# EAGLE library part PI (library Ciseco Board Outlines)
Ciseco Rasbperry Pi add on board outlines
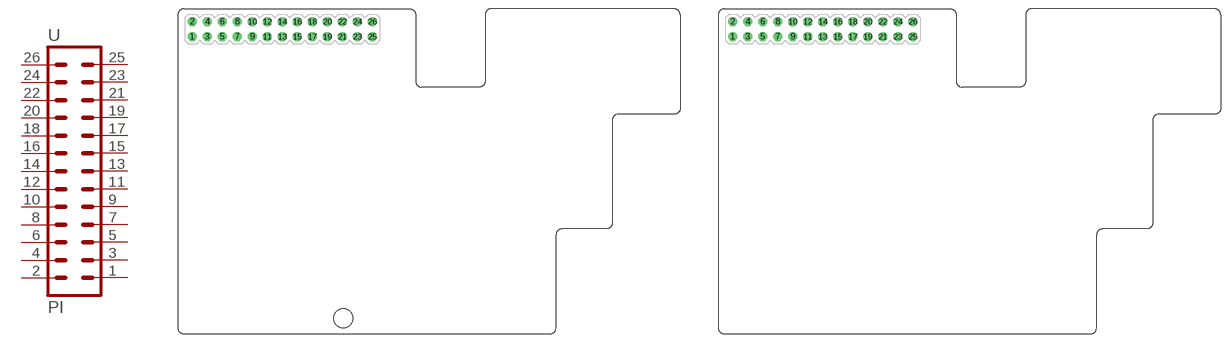
[diagram p0: symbol with the pads of PI-BOARD; footprints PI-BOARD, PI-BOARD-NOHOLE]

Designator prefix U

## PI  [PI-BOARD]
1  1  pas
2  2  pas
3  3  pas
4  4  pas
5  5  pas
6  6  pas
7  7  pas
8  8  pas
9  9  pas
10  10  pas
11  11  pas
12  12  pas
13  13  pas
14  14  pas
15  15  pas
16  16  pas
17  17  pas
18  18  pas
19  19  pas
20  20  pas
21  21  pas
22  22  pas
23  23  pas
24  24  pas
25  25  pas
26  26  pas

## PI-NOHOEL  [PI-BOARD-NOHOLE]
Pads as for PI-BOARD

## PI-REFRENCE  [PI-BOARD_REF]
Pads as for PI-BOARD

## PILARGER  [PI-HEADER-LARGEHOLES]
Pads as for PI-BOARD

## PI-REFRENCE-LOCK  [PI-BOARD-REF-LOCK]
Pads as for PI-BOARD

## PI-REFRENCE-LOCK-PASTE  [PI-BOARD-REF-LOCK-PASTE]
Pads as for PI-BOARD

## PI-HEADER  [PI-HEADER]
Pads as for PI-BOARD

## PI-HEADER-PIN-NUMBERS  [PI-HEADER-PIN]
Pads as for PI-BOARD

## PI-HEADER-PIN-NUMBERS-JAMLOCK  [PI-HEADER-PIN-JAMLOCK]
Pads as for PI-BOARD

## PI-HLE-CONNECTOR-ONLY  [HLE-113-02-F-DV-BE]
Pads as for PI-BOARD

## PI-HLE-BOTTOM  [HLE-113-02-F-DV-BE-BOTTOM]
Pads as for PI-BOARD

## Footprint PI-BOARD (pad centres in mm)
drill 1.016 octagon: 1 2.44,50.31; 2 2.44,52.85; 3 4.98,50.31; 4 4.98,52.85; 5 7.52,50.31; 6 7.52,52.85; 7 10.06,50.31; 8 10.06,52.85; 9 12.6,50.31; 10 12.6,52.85; 11 15.14,50.31; 12 15.14,52.85; 13 17.68,50.31; 14 17.68,52.85; 15 20.22,50.31; 16 20.22,52.85; 17 22.76,50.31; 18 22.76,52.85; 19 25.3,50.31; 20 25.3,52.85; 21 27.84,50.31; 22 27.84,52.85; 23 30.38,50.31; 24 30.38,52.85; 25 32.92,50.31; 26 32.92,52.85
hole 3.2 at 28.019,2.638

## Footprint PI-BOARD-NOHOLE (pad centres in mm)
drill 1.016 octagon: 1 2.44,50.31; 2 2.44,52.85; 3 4.98,50.31; 4 4.98,52.85; 5 7.52,50.31; 6 7.52,52.85; 7 10.06,50.31; 8 10.06,52.85; 9 12.6,50.31; 10 12.6,52.85; 11 15.14,50.31; 12 15.14,52.85; 13 17.68,50.31; 14 17.68,52.85; 15 20.22,50.31; 16 20.22,52.85; 17 22.76,50.31; 18 22.76,52.85; 19 25.3,50.31; 20 25.3,52.85; 21 27.84,50.31; 22 27.84,52.85; 23 30.38,50.31; 24 30.38,52.85; 25 32.92,50.31; 26 32.92,52.85

## Footprint PI-BOARD_REF (pad centres in mm)
drill 1.016 octagon: 1 2.44,50.31; 2 2.44,52.85; 3 4.98,50.31; 4 4.98,52.85; 5 7.52,50.31; 6 7.52,52.85; 7 10.06,50.31; 8 10.06,52.85; 9 12.6,50.31; 10 12.6,52.85; 11 15.14,50.31; 12 15.14,52.85; 13 17.68,50.31; 14 17.68,52.85; 15 20.22,50.31; 16 20.22,52.85; 17 22.76,50.31; 18 22.76,52.85; 19 25.3,50.31; 20 25.3,52.85; 21 27.84,50.31; 22 27.84,52.85; 23 30.38,50.31; 24 30.38,52.85; 25 32.92,50.31; 26 32.92,52.85

## Footprint PI-HEADER-LARGEHOLES (pad centres in mm)
drill 1.5 octagon: 1 2.44,2.05; 2 2.44,4.59; 3 4.98,2.05; 4 4.98,4.59; 5 7.52,2.05; 6 7.52,4.59; 7 10.06,2.05; 8 10.06,4.59; 9 12.6,2.05; 10 12.6,4.59; 11 15.14,2.05; 12 15.14,4.59; 13 17.68,2.05; 14 17.68,4.59; 15 20.22,2.05; 16 20.22,4.59; 17 22.76,2.05; 18 22.76,4.59; 19 25.3,2.05; 20 25.3,4.59; 21 27.84,2.05; 22 27.84,4.59; 23 30.38,2.05; 24 30.38,4.59; 25 32.92,2.05; 26 32.92,4.59

## Footprint PI-BOARD-REF-LOCK (pad centres in mm)
drill 1.016 octagon: 1 2.44,50.11; 2 2.44,53.05; 3 4.98,50.11; 4 4.98,53.05; 5 7.52,50.11; 6 7.52,53.05; 7 10.06,50.11; 8 10.06,53.05; 9 12.6,50.11; 10 12.6,53.05; 11 15.14,50.11; 12 15.14,53.05; 13 17.68,50.11; 14 17.68,53.05; 15 20.22,50.11; 16 20.22,53.05; 17 22.76,50.11; 18 22.76,53.05; 19 25.3,50.11; 20 25.3,53.05; 21 27.84,50.11; 22 27.84,53.05; 23 30.38,50.11; 24 30.38,53.05; 25 32.92,50.11; 26 32.92,53.05

## Footprint PI-BOARD-REF-LOCK-PASTE (pad centres in mm)
drill 1.016 octagon: 1 2.44,50.11; 2 2.44,53.05; 3 4.98,50.11; 4 4.98,53.05; 5 7.52,50.11; 6 7.52,53.05; 7 10.06,50.11; 8 10.06,53.05; 9 12.6,50.11; 10 12.6,53.05; 11 15.14,50.11; 12 15.14,53.05; 13 17.68,50.11; 14 17.68,53.05; 15 20.22,50.11; 16 20.22,53.05; 17 22.76,50.11; 18 22.76,53.05; 19 25.3,50.11; 20 25.3,53.05; 21 27.84,50.11; 22 27.84,53.05; 23 30.38,50.11; 24 30.38,53.05; 25 32.92,50.11; 26 32.92,53.05

## Footprint PI-HEADER (pad centres in mm)
drill 1.016 octagon: 1 2.44,50.31; 2 2.44,52.85; 3 4.98,50.31; 4 4.98,52.85; 5 7.52,50.31; 6 7.52,52.85; 7 10.06,50.31; 8 10.06,52.85; 9 12.6,50.31; 10 12.6,52.85; 11 15.14,50.31; 12 15.14,52.85; 13 17.68,50.31; 14 17.68,52.85; 15 20.22,50.31; 16 20.22,52.85; 17 22.76,50.31; 18 22.76,52.85; 19 25.3,50.31; 20 25.3,52.85; 21 27.84,50.31; 22 27.84,52.85; 23 30.38,50.31; 24 30.38,52.85; 25 32.92,50.31; 26 32.92,52.85

## Footprint PI-HEADER-PIN (pad centres in mm)
drill 1.016 octagon: 1 2.44,50.31; 2 2.44,52.85; 3 4.98,50.31; 4 4.98,52.85; 5 7.52,50.31; 6 7.52,52.85; 7 10.06,50.31; 8 10.06,52.85; 9 12.6,50.31; 10 12.6,52.85; 11 15.14,50.31; 12 15.14,52.85; 13 17.68,50.31; 14 17.68,52.85; 15 20.22,50.31; 16 20.22,52.85; 17 22.76,50.31; 18 22.76,52.85; 19 25.3,50.31; 20 25.3,52.85; 21 27.84,50.31; 22 27.84,52.85; 23 30.38,50.31; 24 30.38,52.85; 25 32.92,50.31; 26 32.92,52.85

## Footprint PI-HEADER-PIN-JAMLOCK (pad centres in mm)
drill 1.016 octagon: 1 2.44,50.16; 2 2.44,53; 3 4.98,50.16; 4 4.98,53; 5 7.52,50.16; 6 7.52,53; 7 10.06,50.16; 8 10.06,53; 9 12.6,50.16; 10 12.6,53; 11 15.14,50.16; 12 15.14,53; 13 17.68,50.16; 14 17.68,53; 15 20.22,50.16; 16 20.22,53; 17 22.76,50.16; 18 22.76,53; 19 25.3,50.16; 20 25.3,53; 21 27.84,50.16; 22 27.84,53; 23 30.38,50.16; 24 30.38,53; 25 32.92,50.16; 26 32.92,53

## Footprint HLE-113-02-F-DV-BE (pad centres in mm)
smd 0.8 x 1.4: 1 -15.24,-2.65; 2 -15.24,2.65; 3 -12.7,-2.65; 4 -12.7,2.65; 5 -10.16,-2.65; 6 -10.16,2.65; 7 -7.62,-2.65; 8 -7.62,2.65; 9 -5.08,-2.65; 10 -5.08,2.65; 11 -2.54,-2.65; 12 -2.54,2.654; 13 0,-2.65; 14 0,2.65; 15 2.54,-2.65; 16 2.54,2.65; 17 5.08,-2.65; 18 5.08,2.65; 19 7.62,-2.65; 20 7.62,2.65; 21 10.16,-2.65; 22 10.16,2.65; 23 12.7,-2.65; 24 12.7,2.65; 25 15.24,-2.65; 26 15.24,2.65
hole 0.97 at -2.54,1.27
hole 0.97 at -2.54,-1.27
hole 0.97 at 0,1.27
hole 0.97 at 0,-1.27
hole 0.97 at 2.54,1.27
hole 0.97 at 2.54,-1.27
hole 0.97 at 5.08,1.27
hole 0.97 at 5.08,-1.27
hole 0.97 at 7.62,1.27
hole 0.97 at 7.62,-1.27
hole 0.97 at 10.16,1.27
hole 0.97 at 10.16,-1.27
hole 0.97 at 12.7,1.27
hole 0.97 at 12.7,-1.27
hole 0.97 at 15.24,1.27
hole 0.97 at 15.24,-1.27
hole 0.97 at -5.08,1.27
hole 0.97 at -5.08,-1.27
hole 0.97 at -7.62,1.27
hole 0.97 at -7.62,-1.27
hole 0.97 at -10.16,1.27
hole 0.97 at -10.16,-1.27
hole 0.97 at -12.7,1.27
hole 0.97 at -12.7,-1.27
hole 0.97 at -15.24,1.27
hole 0.97 at -15.24,-1.27

## Footprint HLE-113-02-F-DV-BE-BOTTOM (pad centres in mm)
smd 0.8 x 1.4 bottom: 1 -15.24,-2.65; 2 -15.24,2.65; 3 -12.7,-2.65; 4 -12.7,2.65; 5 -10.16,-2.65; 6 -10.16,2.65; 7 -7.62,-2.65; 8 -7.62,2.65; 9 -5.08,-2.65; 10 -5.08,2.65; 11 -2.54,-2.65; 12 -2.54,2.654; 13 0,-2.65; 14 0,2.65; 15 2.54,-2.65; 16 2.54,2.65; 17 5.08,-2.65; 18 5.08,2.65; 19 7.62,-2.65; 20 7.62,2.65; 21 10.16,-2.65; 22 10.16,2.65; 23 12.7,-2.65; 24 12.7,2.65; 25 15.24,-2.65; 26 15.24,2.65
hole 0.97 at -2.54,1.27
hole 0.97 at -2.54,-1.27
hole 0.97 at 0,1.27
hole 0.97 at 0,-1.27
hole 0.97 at 2.54,1.27
hole 0.97 at 2.54,-1.27
hole 0.97 at 5.08,1.27
hole 0.97 at 5.08,-1.27
hole 0.97 at 7.62,1.27
hole 0.97 at 7.62,-1.27
hole 0.97 at 10.16,1.27
hole 0.97 at 10.16,-1.27
hole 0.97 at 12.7,1.27
hole 0.97 at 12.7,-1.27
hole 0.97 at 15.24,1.27
hole 0.97 at 15.24,-1.27
hole 0.97 at -5.08,1.27
hole 0.97 at -5.08,-1.27
hole 0.97 at -7.62,1.27
hole 0.97 at -7.62,-1.27
hole 0.97 at -10.16,1.27
hole 0.97 at -10.16,-1.27
hole 0.97 at -12.7,1.27
hole 0.97 at -12.7,-1.27
hole 0.97 at -15.24,1.27
hole 0.97 at -15.24,-1.27